# Altium schematic symbol library Logic_74xx.SchLib: 7 symbols
Pins are listed as number, name and electrical type; pins without a type are passive.

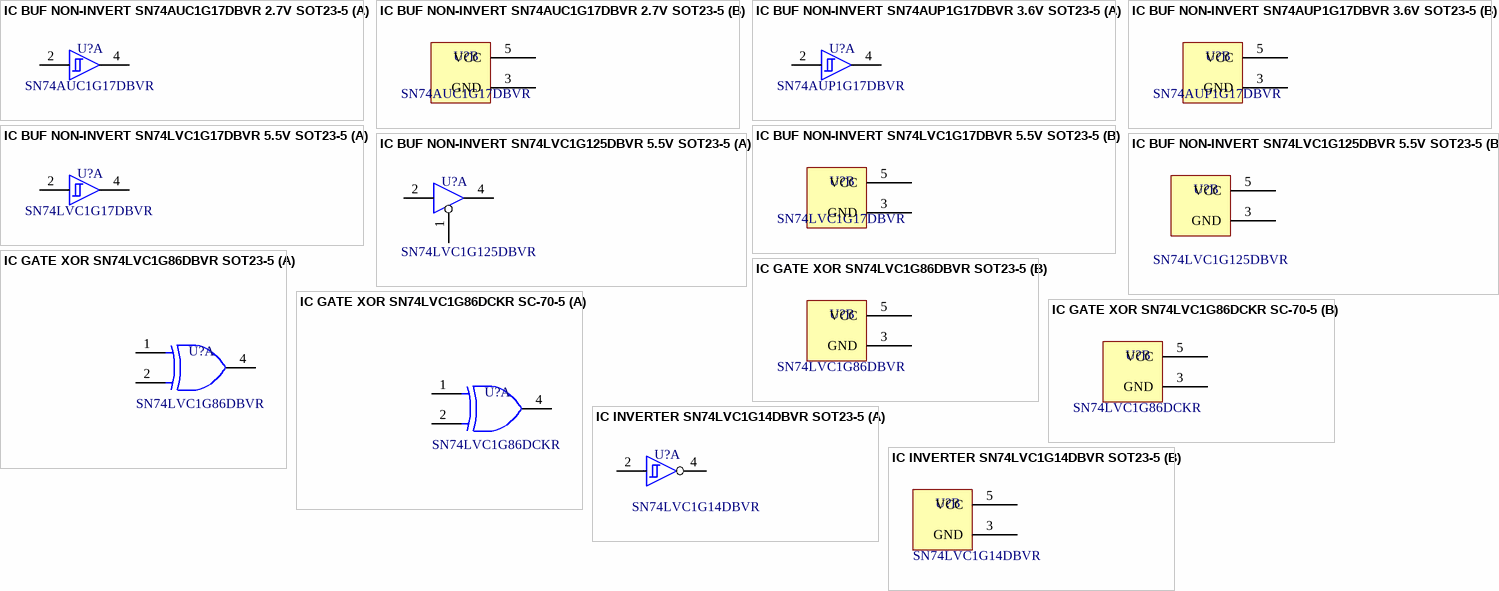
[diagram p0: symbols IC BUF NON-INVERT SN74AUC1G17DBVR 2.7V SOT23-5 to IC INVERTER SN74LVC1G14DBVR SOT23-5]

## IC BUF NON-INVERT SN74AUC1G17DBVR 2.7V SOT23-5
designator U?  value SN74AUC1G17DBVR
Buffer, Non-Inverting 1 Element 1 Bit per Element Push-Pull Output SOT-23-5; PartNumber1: SN74AUC1G17DBVR; Supplier 1: Digi-Key; Supplier 2: Digi-Key; Supplier 3: Digi-Key; Supplier 4: Farnell; Supplier 5: Mouser; Supplier 6: Arrow; Supplier Part Number 6: SN74AUC1G17DBVR; Supplier Part Number 5: 595-SN74AUC1G17DBVR; Supplier Part Number 4: 1606272; Supplier Part Number 3: 296-12654-2-ND; Supplier Part Number 2: 296-12654-6-ND; Supplier Part Number 1: 296-12654-1-ND
footprint SOT23-5
part A pins: 2 A, 4 Y
part B pins: 3 GND (power), 5 VCC (power)

## IC BUF NON-INVERT SN74AUP1G17DBVR 3.6V SOT23-5
designator U?  value SN74AUP1G17DBVR
Buffer, Non-Inverting 1 Element 1 Bit per Element Push-Pull Output SOT-23-5; PartNumber1: SN74AUP1G17DBVR; Supplier 1: Digi-Key; Supplier 2: Digi-Key; Supplier 3: Digi-Key; Supplier 4: Farnell; Supplier 5: Mouser; Supplier 6: Arrow; Supplier Part Number 6: SN74AUP1G17DBVR; Supplier Part Number 5: 595-SN74AUP1G17DBVR; Supplier Part Number 4: 2342381; Supplier Part Number 3: 296-19077-2-ND; Supplier Part Number 2: 296-19077-6-ND; Supplier Part Number 1: 296-19077-1-ND
footprint SOT23-5
part A pins: 2 A, 4 Y
part B pins: 3 GND (power), 5 VCC (power)

## IC BUF NON-INVERT SN74LVC1G17DBVR 5.5V SOT23-5
designator U?  value SN74LVC1G17DBVR
Buffer, Non-Inverting 1 Element 1 Bit per Element Push-Pull Output SOT-23-5; PartNumber1: SN74LVC1G17DBVR; Supplier 1: Digi-Key; Supplier 2: Digi-Key; Supplier 3: Digi-Key; Supplier 4: Farnell; Supplier 5: Mouser; Supplier 6: Arrow; Supplier Part Number 6: SN74LVC1G17DBVR; Supplier Part Number 5: 595-SN74LVC1G17DBVR; Supplier Part Number 4: 1470773; Supplier Part Number 3: 296-11933-2-ND; Supplier Part Number 2: 296-11933-6-ND; Supplier Part Number 1: 296-11933-1-ND
footprint SOT23-5
part A pins: 2 A, 4 Y
part B pins: 3 GND (power), 5 VCC (power)

## IC BUF NON-INVERT SN74LVC1G125DBVR 5.5V SOT23-5
designator U?  value SN74LVC1G125DBVR  (hidden comment: *)
Buffer, Non-Inverting 1 Element 1 Bit per Element 3-State Output SOT-23-5; PartNumber1: SN74LVC1G125DBVR; Supplier 1: RSComponents; Supplier Part Number 1: 1218441; Supplier 2: Mouser; Supplier 3: Digi-Key; Supplier 4: Digi-Key; Supplier Part Number 4: 296-11603-2-ND; Supplier Part Number 3: 296-11603-1-ND; Supplier Part Number 2: 595-SN74LVC1G125DBVR
footprint SOT23-5
part A pins: 1 ~{OE}, 2 A, 4 Y
part B pins: 3 GND (power), 5 VCC (power)

## IC GATE XOR SN74LVC1G86DBVR SOT23-5
designator U?  value SN74LVC1G86DBVR
XOR (Exclusive OR) IC 1 Channel  SOT-23-5; PartNumber1: SN74LVC1G86DBVR; Supplier 1: Digi-Key; Supplier 2: Digi-Key; Supplier 3: Digi-Key; Supplier 4: Farnell; Supplier 5: Mouser; Supplier 6: Arrow; Supplier Part Number 1: 296-9853-1-ND; Supplier Part Number 2: 296-9853-6-ND; Supplier Part Number 3: 296-9853-2-ND; Supplier Part Number 4: 1287521; Supplier Part Number 5: 595-SN74LVC1G86DBVR; Supplier Part Number 6: SN74LVC1G86DBVR
footprint SOT23-5
part A pins: 1 A, 2 B, 4 Y
part B pins: 3 GND (power), 5 VCC (power)

## IC GATE XOR SN74LVC1G86DCKR SC-70-5
designator U?  value SN74LVC1G86DCKR
XOR (Exclusive OR) IC 1 Channel  SC-70-5; PartNumber1: SN74LVC1G86DCKR; Supplier 1: RSComponents; Supplier Part Number 1: 7968256; Supplier 2: Digi-Key; Supplier 3: Digi-Key; Supplier 4: Digi-Key; Supplier 5: Farnell; Supplier 6: Mouser; Supplier 7: Arrow; Supplier Part Number 7: SN74LVC1G86DCKR; Supplier Part Number 6: 595-SN74LVC1G86DCKR; Supplier Part Number 5: 1287522; Supplier Part Number 4: 296-9854-2-ND; Supplier Part Number 3: 296-9854-6-ND; Supplier Part Number 2: 296-9854-1-ND
footprint SC70-5
part A pins: 1 A, 2 B, 4 Y
part B pins: 3 GND (power), 5 VCC (power)

## IC INVERTER SN74LVC1G14DBVR SOT23-5
designator U?  value SN74LVC1G14DBVR
Inverter IC 1 Channel Schmitt Trigger SOT-23-5; PartNumber1: SN74LVC1G14DBVR; Supplier 1: Digi-Key; Supplier 2: Digi-Key; Supplier 3: Digi-Key; Supplier 4: Farnell; Supplier 5: Farnell; Supplier 6: Mouser; Supplier 7: Arrow; Supplier Part Number 7: SN74LVC1G14DBVR; Supplier Part Number 6: 595-SN74LVC1G14DBVR; Supplier Part Number 5: 2437147; Supplier Part Number 4: 1470878; Supplier Part Number 3: 296-11607-2-ND; Supplier Part Number 2: 296-11607-6-ND; Supplier Part Number 1: 296-11607-1-ND
footprint SOT23-5
part A pins: 2 A, 4 Y
part B pins: 3 GND (power), 5 VCC (power)